# Altium schematic symbol library FG6943010R NP MOSFET.SchLib: 1 symbol
Pins are listed as number, name and electrical type; pins without a type are passive.

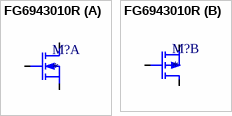
[diagram p0: symbol FG6943010R]

## FG6943010R
designator M?
part A pins: 1 NS, 2 NG, 6 ND
part B pins: 3 PD, 4 PS, 5 PG